# EAGLE library part 050_610_?-40/80 (library con-sullinselectronics)
.050 DIP EDGE CARD CONNECTOR .050 [1.27mm] CONTACT CENTERS .610" INSULATEOR HEIGHT Source: .050 DIP EDGE CARD.pdf
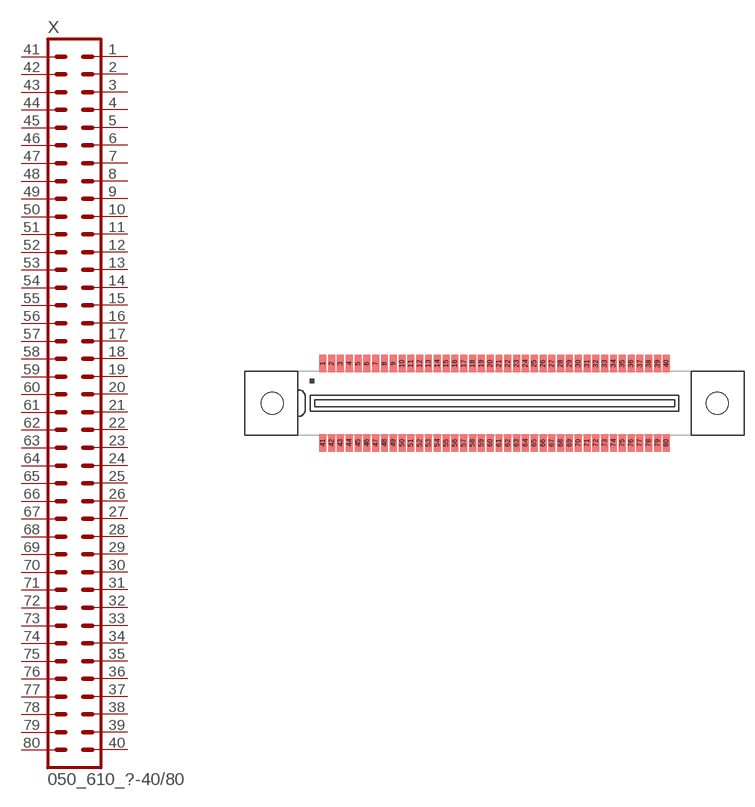
[diagram p4: symbol with the pads of 050_610_HF-40/80; footprint 050_610_HF-40/80]

Designator prefix X

## 050_610_HF-40/80  [050_610_HF-40/80]
1  1  pas
2  2  pas
3  3  pas
4  4  pas
5  5  pas
6  6  pas
7  7  pas
8  8  pas
9  9  pas
10  10  pas
11  11  pas
12  12  pas
13  13  pas
14  14  pas
15  15  pas
16  16  pas
17  17  pas
18  18  pas
19  19  pas
20  20  pas
21  21  pas
22  22  pas
23  23  pas
24  24  pas
25  25  pas
26  26  pas
27  27  pas
28  28  pas
29  29  pas
30  30  pas
31  31  pas
32  32  pas
33  33  pas
34  34  pas
35  35  pas
36  36  pas
37  37  pas
38  38  pas
39  39  pas
40  40  pas
41  41  pas
42  42  pas
43  43  pas
44  44  pas
45  45  pas
46  46  pas
47  47  pas
48  48  pas
49  49  pas
50  50  pas
51  51  pas
52  52  pas
53  53  pas
54  54  pas
55  55  pas
56  56  pas
57  57  pas
58  58  pas
59  59  pas
60  60  pas
61  61  pas
62  62  pas
63  63  pas
64  64  pas
65  65  pas
66  66  pas
67  67  pas
68  68  pas
69  69  pas
70  70  pas
71  71  pas
72  72  pas
73  73  pas
74  74  pas
75  75  pas
76  76  pas
77  77  pas
78  78  pas
79  79  pas
80  80  pas

## Footprint 050_610_HF-40/80 (pad centres in mm)
.050 DIP EDGE CARD CONNECTOR SURFACE MOUNT .050 [1.27mm] CONTACT CENTERS .610" INSULATEOR HEIGHT Source: .050 DIP EDGE CARD.pdf
smd 1 x 2.5: 1 -24.765,5.715; 2 -23.495,5.715; 3 -22.225,5.715; 4 -20.955,5.715; 5 -19.685,5.715; 6 -18.415,5.715; 7 -17.145,5.715; 8 -15.875,5.715; 9 -14.605,5.715; 10 -13.335,5.715; 11 -12.065,5.715; 12 -10.795,5.715; 13 -9.525,5.715; 14 -8.255,5.715; 15 -6.985,5.715; 16 -5.715,5.715; 17 -4.445,5.715; 18 -3.175,5.715; 19 -1.905,5.715; 20 -0.635,5.715; 21 0.635,5.715; 22 1.905,5.715; 23 3.175,5.715; 24 4.445,5.715; 25 5.715,5.715; 26 6.985,5.715; 27 8.255,5.715; 28 9.525,5.715; 29 10.795,5.715; 30 12.065,5.715; 31 13.335,5.715; 32 14.605,5.715; 33 15.875,5.715; 34 17.145,5.715; 35 18.415,5.715; 36 19.685,5.715; 37 20.955,5.715; 38 22.225,5.715; 39 23.495,5.715; 40 24.765,5.715; 41 -24.765,-5.715; 42 -23.495,-5.715; 43 -22.225,-5.715; 44 -20.955,-5.715; 45 -19.685,-5.715; 46 -18.415,-5.715; 47 -17.145,-5.715; 48 -15.875,-5.715; 49 -14.605,-5.715; 50 -13.335,-5.715; 51 -12.065,-5.715; 52 -10.795,-5.715; 53 -9.525,-5.715; 54 -8.255,-5.715; 55 -6.985,-5.715; 56 -5.715,-5.715; 57 -4.445,-5.715; 58 -3.175,-5.715; 59 -1.905,-5.715; 60 -0.635,-5.715; 61 0.635,-5.715; 62 1.905,-5.715; 63 3.175,-5.715; 64 4.445,-5.715; 65 5.715,-5.715; 66 6.985,-5.715; 67 8.255,-5.715; 68 9.525,-5.715; 69 10.795,-5.715; 70 12.065,-5.715; 71 13.335,-5.715; 72 14.605,-5.715; 73 15.875,-5.715; 74 17.145,-5.715; 75 18.415,-5.715; 76 19.685,-5.715; 77 20.955,-5.715; 78 22.225,-5.715; 79 23.495,-5.715; 80 24.765,-5.715
hole 3.18 at -32.08,0
hole 3.18 at 32.08,0